# Altium footprint library 接口.PCBLIB: 266 footprints (part 9 of 17)
Each footprint in its own frame and in the unit in brackets; x right, y up, seen from the top. Pads: shape width x height; smd on the part's side, far side on the other; paste and mask are expansions set on the pad; w line width, h text height; cw(c..) or ccw(c..) is an arc to the next point about the centre after c.
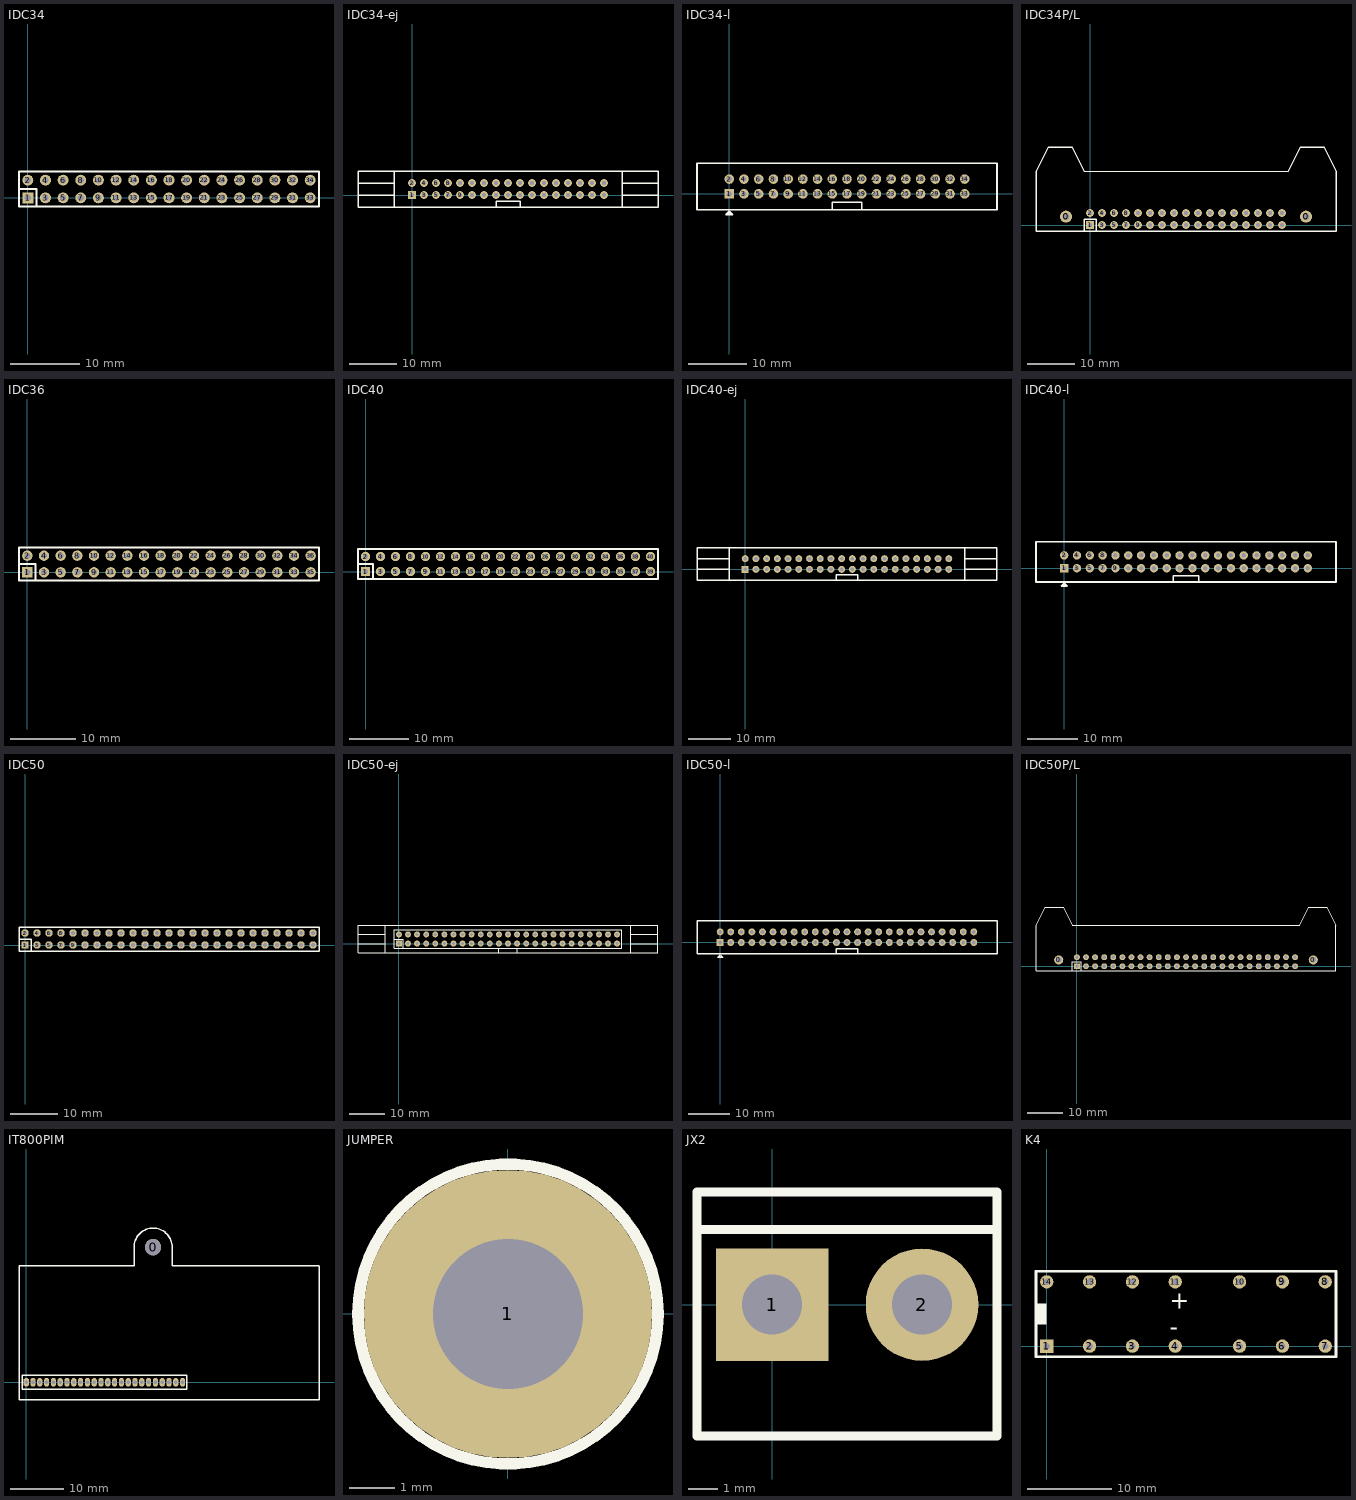
[diagram p8: the footprints below, top view; thin cyan lines are the x and y axes]

## IDC34 [mil]
pads (34):
  rect 62x62 hole 35: 1(0,0)
  round 62 hole 35: 2(0,100) 3(100,0) 4(100,100) 5(200,0) 6(200,100) 7(300,0) 8(300,100) 9(400,0) 10(400,100) 11(500,0) 12(500,100) 13(600,0) 14(600,100) 15(700,0) 16(700,100) 17(800,0) 18(800,100) 19(900,0) 20(900,100) 21(1000,0) 22(1000,100) 23(1100,0) 24(1100,100) 25(1200,0) 26(1200,100) 27(1300,0) 28(1300,100) 29(1400,0) 30(1400,100) 31(1500,0) 32(1500,100) 33(1600,0) 34(1600,100)
TopOverlay:
  lines w12: -50,50 50,50 50,-50 ; -50,-50 -50,150 1650,150 1650,-50 -50,-50

## IDC34-ej [mil]
pads (34):
  rect 65x65 hole 35: 1(0,0)
  round 65 hole 35: 2(0,100) 3(100,0) 4(100,100) 5(200,0) 6(200,100) 7(300,0) 8(300,100) 9(400,0) 10(400,100) 11(500,0) 12(500,100) 13(600,0) 14(600,100) 15(700,0) 16(700,100) 17(800,0) 18(800,100) 19(900,0) 20(900,100) 21(1000,0) 22(1000,100) 23(1100,0) 24(1100,100) 25(1200,0) 26(1200,100) 27(1300,0) 28(1300,100) 29(1400,0) 30(1400,100) 31(1500,0) 32(1500,100) 33(1600,0) 34(1600,100)
TopOverlay:
  lines w12: -450,0 -150,0 ; -450,100 -150,100 ; -150,-100 -150,200 ; 700,-100 700,-50 900,-50 900,-100 ; 1750,-100 1750,200 ; 1750,0 2050,0 ; 1750,100 2050,100 ; -450,-100 2050,-100 2050,200 -450,200 -450,-100

## IDC34-l [mil]
pads (34):
  rect 65x65 hole 35: 1(0,0)
  round 65 hole 35: 2(0,100) 3(100,0) 4(100,100) 5(200,0) 6(200,100) 7(300,0) 8(300,100) 9(400,0) 10(400,100) 11(500,0) 12(500,100) 13(600,0) 14(600,100) 15(700,0) 16(700,100) 17(800,0) 18(800,100) 19(900,0) 20(900,100) 21(1000,0) 22(1000,100) 23(1100,0) 24(1100,100) 25(1200,0) 26(1200,100) 27(1300,0) 28(1300,100) 29(1400,0) 30(1400,100) 31(1500,0) 32(1500,100) 33(1600,0) 34(1600,100)
TopOverlay:
  lines w10: 7.87,-137.8 0,-129.92 -11.81,-141.73 -23.62,-141.73 ; -23.62,-141.73 23.62,-141.73 0,-118.11 -23.62,-141.73
  lines w12: 700,-107.48 700,-57.48 900,-57.48 900,-107.48 ; -219.29,-107.48 1819.29,-107.48 1819.29,207.48 -219.29,207.48 -219.29,-107.48

## IDC34P/L [mil]
pads (36):
  round 100 hole 60: 0(-200,70) 0(1800,70)
  rect 65x65 hole 35: 1(0,0)
  round 65 hole 35: 2(0,100) 3(100,0) 4(100,100) 5(200,0) 6(200,100) 7(300,0) 8(300,100) 9(400,0) 10(400,100) 11(500,0) 12(500,100) 13(600,0) 14(600,100) 15(700,0) 16(700,100) 17(800,0) 18(800,100) 19(900,0) 20(900,100) 21(1000,0) 22(1000,100) 23(1100,0) 24(1100,100) 25(1200,0) 26(1200,100) 27(1300,0) 28(1300,100) 29(1400,0) 30(1400,100) 31(1500,0) 32(1500,100) 33(1600,0) 34(1600,100)
TopOverlay:
  lines w10: -50,450 1650,450
  lines w12: -50,-50 -50,50 50,50 50,-50 ; -50,450 -150,650 -350,650 -450,450 -450,-50 2050,-50 2050,450 1950,650 1750,650 1650,450

## IDC36 [mil]
pads (36):
  rect 62x62 hole 35: 1(0,0)
  round 62 hole 35: 2(0,100) 3(100,0) 4(100,100) 5(200,0) 6(200,100) 7(300,0) 8(300,100) 9(400,0) 10(400,100) 11(500,0) 12(500,100) 13(600,0) 14(600,100) 15(700,0) 16(700,100) 17(800,0) 18(800,100) 19(900,0) 20(900,100) 21(1000,0) 22(1000,100) 23(1100,0) 24(1100,100) 25(1200,0) 26(1200,100) 27(1300,0) 28(1300,100) 29(1400,0) 30(1400,100) 31(1500,0) 32(1500,100) 33(1600,0) 34(1600,100) 35(1700,0) 36(1700,100)
TopOverlay:
  lines w12: -50,50 50,50 50,-50 ; -50,-50 1750,-50 1750,150 -50,150 -50,-50

## IDC40 [mil]
pads (40):
  rect 62x62 hole 35: 1(0,0)
  round 62 hole 35: 2(0,100) 3(100,0) 4(100,100) 5(200,0) 6(200,100) 7(300,0) 8(300,100) 9(400,0) 10(400,100) 11(500,0) 12(500,100) 13(600,0) 14(600,100) 15(700,0) 16(700,100) 17(800,0) 18(800,100) 19(900,0) 20(900,100) 21(1000,0) 22(1000,100) 23(1100,0) 24(1100,100) 25(1200,0) 26(1200,100) 27(1300,0) 28(1300,100) 29(1400,0) 30(1400,100) 31(1500,0) 32(1500,100) 33(1600,0) 34(1600,100) 35(1700,0) 36(1700,100) 37(1800,0) 38(1800,100) 39(1900,0) 40(1900,100)
TopOverlay:
  lines w12: -50,50 50,50 50,-50 ; -50,-50 1950,-50 1950,150 -50,150 -50,-50

## IDC40-ej [mil]
pads (40):
  rect 65x65 hole 35: 1(0,0)
  round 65 hole 35: 2(0,100) 3(100,0) 4(100,100) 5(200,0) 6(200,100) 7(300,0) 8(300,100) 9(400,0) 10(400,100) 11(500,0) 12(500,100) 13(600,0) 14(600,100) 15(700,0) 16(700,100) 17(800,0) 18(800,100) 19(900,0) 20(900,100) 21(1000,0) 22(1000,100) 23(1100,0) 24(1100,100) 25(1200,0) 26(1200,100) 27(1300,0) 28(1300,100) 29(1400,0) 30(1400,100) 31(1500,0) 32(1500,100) 33(1600,0) 34(1600,100) 35(1700,0) 36(1700,100) 37(1800,0) 38(1800,100) 39(1900,0) 40(1900,100)
TopOverlay:
  lines w12: -450,0 -150,0 ; -450,100 -150,100 ; -150,-100 -150,200 ; 850,-100 850,-50 1050,-50 1050,-100 ; 2050,-100 2050,200 ; 2050,0 2350,0 ; 2050,100 2350,100 ; -450,-100 2350,-100 2350,200 -450,200 -450,-100

## IDC40-l [mil]
pads (40):
  rect 65x65 hole 35: 1(0,0)
  round 65 hole 35: 2(0,100) 3(100,0) 4(100,100) 5(200,0) 6(200,100) 7(300,0) 8(300,100) 9(400,0) 10(400,100) 11(500,0) 12(500,100) 13(600,0) 14(600,100) 15(700,0) 16(700,100) 17(800,0) 18(800,100) 19(900,0) 20(900,100) 21(1000,0) 22(1000,100) 23(1100,0) 24(1100,100) 25(1200,0) 26(1200,100) 27(1300,0) 28(1300,100) 29(1400,0) 30(1400,100) 31(1500,0) 32(1500,100) 33(1600,0) 34(1600,100) 35(1700,0) 36(1700,100) 37(1800,0) 38(1800,100) 39(1900,0) 40(1900,100)
TopOverlay:
  lines w10: 7.87,-137.8 0,-129.92 -11.81,-141.73 -23.62,-141.73 ; -23.62,-141.73 23.62,-141.73 0,-118.11 -23.62,-141.73
  lines w12: 850,-107.48 850,-57.48 1050,-57.48 1050,-107.48 ; -219.29,-107.48 2119.29,-107.48 2119.29,207.48 -219.29,207.48 -219.29,-107.48

## IDC50 [mil]
pads (50):
  rect 62x62 hole 35: 1(0,0)
  round 62 hole 35: 2(0,100) 3(100,0) 4(100,100) 5(200,0) 6(200,100) 7(300,0) 8(300,100) 9(400,0) 10(400,100) 11(500,0) 12(500,100) 13(600,0) 14(600,100) 15(700,0) 16(700,100) 17(800,0) 18(800,100) 19(900,0) 20(900,100) 21(1000,0) 22(1000,100) 23(1100,0) 24(1100,100) 25(1200,0) 26(1200,100) 27(1300,0) 28(1300,100) 29(1400,0) 30(1400,100) 31(1500,0) 32(1500,100) 33(1600,0) 34(1600,100) 35(1700,0) 36(1700,100) 37(1800,0) 38(1800,100) 39(1900,0) 40(1900,100) 41(2000,0) 42(2000,100) 43(2100,0) 44(2100,100) 45(2200,0) 46(2200,100) 47(2300,0) 48(2300,100) 49(2400,0) 50(2400,100)
TopOverlay:
  lines w12: -50,50 50,50 50,-50 ; -50,-50 2450,-50 2450,150 -50,150 -50,-50

## IDC50-ej [mil]
pads (50):
  rect 65x65 hole 35: 1(0,0)
  round 65 hole 35: 2(0,100) 3(100,0) 4(100,100) 5(200,0) 6(200,100) 7(300,0) 8(300,100) 9(400,0) 10(400,100) 11(500,0) 12(500,100) 13(600,0) 14(600,100) 15(700,0) 16(700,100) 17(800,0) 18(800,100) 19(900,0) 20(900,100) 21(1000,0) 22(1000,100) 23(1100,0) 24(1100,100) 25(1200,0) 26(1200,100) 27(1300,0) 28(1300,100) 29(1400,0) 30(1400,100) 31(1500,0) 32(1500,100) 33(1600,0) 34(1600,100) 35(1700,0) 36(1700,100) 37(1800,0) 38(1800,100) 39(1900,0) 40(1900,100) 41(2000,0) 42(2000,100) 43(2100,0) 44(2100,100) 45(2200,0) 46(2200,100) 47(2300,0) 48(2300,100) 49(2400,0) 50(2400,100)
TopOverlay:
  lines w12: -450,0 -150,0 ; -450,100 -150,100 ; -150,-100 -150,200 ; -50,50 50,50 50,-50 ; 1100,-100 1100,-50 1300,-50 1300,-100 ; 2550,-100 2550,200 ; 2550,0 2850,0 ; 2550,100 2850,100 ; -450,-100 2850,-100 2850,200 -450,200 -450,-100 ; -50,-50 2450,-50 2450,150 -50,150 -50,-50

## IDC50-l [mil]
pads (50):
  rect 65x65 hole 35: 1(0,0)
  round 65 hole 35: 2(0,100) 3(100,0) 4(100,100) 5(200,0) 6(200,100) 7(300,0) 8(300,100) 9(400,0) 10(400,100) 11(500,0) 12(500,100) 13(600,0) 14(600,100) 15(700,0) 16(700,100) 17(800,0) 18(800,100) 19(900,0) 20(900,100) 21(1000,0) 22(1000,100) 23(1100,0) 24(1100,100) 25(1200,0) 26(1200,100) 27(1300,0) 28(1300,100) 29(1400,0) 30(1400,100) 31(1500,0) 32(1500,100) 33(1600,0) 34(1600,100) 35(1700,0) 36(1700,100) 37(1800,0) 38(1800,100) 39(1900,0) 40(1900,100) 41(2000,0) 42(2000,100) 43(2100,0) 44(2100,100) 45(2200,0) 46(2200,100) 47(2300,0) 48(2300,100) 49(2400,0) 50(2400,100)
TopOverlay:
  lines w10: 7.87,-137.8 0,-129.92 -11.81,-141.73 -23.62,-141.73 ; -23.62,-141.73 0,-118.11 23.62,-141.73 -23.62,-141.73
  lines w12: 1100,-107.48 1100,-57.48 1300,-57.48 1300,-107.48 ; -219.29,-107.48 -219.29,207.48 2619.29,207.48 2619.29,-107.48 -219.29,-107.48

## IDC50P/L [mil]
pads (52):
  round 100 hole 60: 0(-200,70) 0(2600,70)
  rect 65x65 hole 35: 1(0,0)
  round 65 hole 35: 2(0,100) 3(100,0) 4(100,100) 5(200,0) 6(200,100) 7(300,0) 8(300,100) 9(400,0) 10(400,100) 11(500,0) 12(500,100) 13(600,0) 14(600,100) 15(700,0) 16(700,100) 17(800,0) 18(800,100) 19(900,0) 20(900,100) 21(1000,0) 22(1000,100) 23(1100,0) 24(1100,100) 25(1200,0) 26(1200,100) 27(1300,0) 28(1300,100) 29(1400,0) 30(1400,100) 31(1500,0) 32(1500,100) 33(1600,0) 34(1600,100) 35(1700,0) 36(1700,100) 37(1800,0) 38(1800,100) 39(1900,0) 40(1900,100) 41(2000,0) 42(2000,100) 43(2100,0) 44(2100,100) 45(2200,0) 46(2200,100) 47(2300,0) 48(2300,100) 49(2400,0) 50(2400,100)
TopOverlay:
  lines w12: -50,-50 -50,50 50,50 50,-50 ; -450,-50 -450,450 -350,650 -150,650 -50,450 2450,450 2550,650 2750,650 2850,450 2850,-50 -450,-50

## IT800PIM [mil]
pads (25):
  round 120 hole 120: 0(933,994)
  oct 38x65 hole 27.56: 1(0,0)
  oval 38x65 hole 27.56: 2(50,0) 3(100,0) 4(150,0) 5(200,0) 6(250,0) 7(300,0) 8(350,0) 9(400,0) 10(450,0) 11(500,0) 12(550,0) 13(600,0) 14(650,0) 15(700,0) 16(750,0) 17(800,0) 18(850,0) 19(900,0) 20(950,0) 21(1000,0) 22(1050,0) 23(1100,0) 24(1150,0)
TopOverlay:
  lines w10: 2152,857 1073,857 1073,994 ccw(c933,994) 793,994 793,856 -53,856 -53,-130 2153,-130 2153,856 ; -30,-50 1180,-50 1180,50 -30,50 -30,-50

## JUMPER [mil]
pads (1):
  round 250 hole 130: 1(0,0)
TopOverlay:
  circle w10: c0,0 r130

## JX2 [mil]
pads (2):
  rect 150x150 hole 80: 1(0,0)
  round 150 hole 80: 2(200,0)
TopOverlay:
  lines w12: -100,100 300,100 ; -100,-175 -100,150 300,150 300,-175 -100,-175

## K4 [mil]
pads (14):
  rect 62x62 hole 30: 1(0,0)
  round 62 hole 30: 2(200,0) 3(400,0) 4(600,0) 5(900,0) 6(1100,0) 7(1300,0) 8(1300,300) 9(1100,300) 10(900,300) 11(600,300) 12(400,300) 13(200,300) 14(0,300)
TopOverlay:
  rectangle: -50,100 0,200
  lines w12: -50,-50 1350,-50 1350,350 -50,350 -50,-50
  text "-" at 575,50 h80
  text "+" at 575,175 h80